# EAGLE library part TI_MSP430FR2310IPW16R (library pcb_robot)
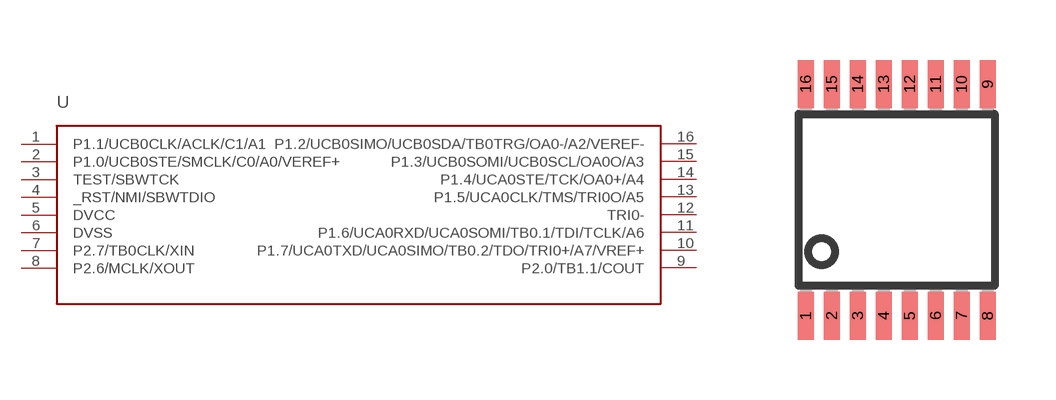
[diagram p0: symbol with the pads of PW_R-PDSO-G16; footprint PW_R-PDSO-G16]

Designator prefix U

## TI_MSP430FR2310IPW16R  [PW_R-PDSO-G16]
1  P1.1/UCB0CLK/ACLK/C1/A1
2  P1.0/UCB0STE/SMCLK/C0/A0/VEREF+
3  TEST/SBWTCK
4  _RST/NMI/SBWTDIO
5  DVCC
6  DVSS
7  P2.7/TB0CLK/XIN
8  P2.6/MCLK/XOUT
9  P2.0/TB1.1/COUT
10  P1.7/UCA0TXD/UCA0SIMO/TB0.2/TDO/TRI0+/A7/VREF+
11  P1.6/UCA0RXD/UCA0SOMI/TB0.1/TDI/TCLK/A6
12  TRI0-
13  P1.5/UCA0CLK/TMS/TRI0O/A5
14  P1.4/UCA0STE/TCK/OA0+/A4
15  P1.3/UCB0SOMI/UCB0SCL/OA0O/A3
16  P1.2/UCB0SIMO/UCB0SDA/TB0TRG/OA0-/A2/VEREF-

## Footprint PW_R-PDSO-G16 (pad centres in mm)
PLASTIC SMALL-OUTLINE PACKAGE SO 16 JEDEC MO-153, PW Type Source: www.ti.com/.. slvs087l.pdf
smd 0.4 x 1.2: 1 -2.275,-2.9; 2 -1.625,-2.9; 3 -0.975,-2.9; 4 -0.325,-2.9; 5 0.325,-2.9; 6 0.975,-2.9; 7 1.625,-2.9; 8 2.275,-2.9; 9 2.275,2.9; 10 1.625,2.9; 11 0.975,2.9; 12 0.325,2.9; 13 -0.325,2.9; 14 -0.975,2.9; 15 -1.625,2.9; 16 -2.275,2.9